# Altium schematic symbol library TCA9544APWR.SchLib: 2 symbols
Pins are listed as number, name and electrical type; pins without a type are passive.

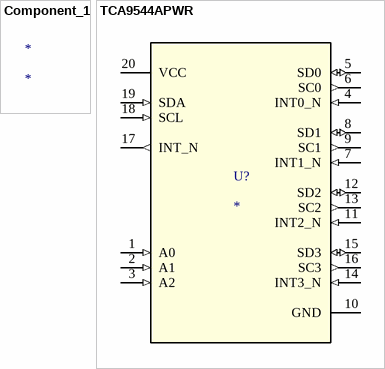
[diagram p0: symbols Component_1 to TCA9544APWR]

## Component_1
designator *

## TCA9544APWR
designator U?
No Description Available; Mfr_Name: Texas Instruments; PartNumber: TCA9544APWR; CompType: IC; TYPE: TYPE; RefDes: RefDes; SymbolVerison: 2015-05-04; PackageReference: PW0020A; MountType: SMT; RoHS: Y; Manufacturer: Texas Instruments
footprint PW0020A_L
pins: 1 A0 (in), 2 A1 (in), 3 A2 (in), 4 INT0_N (in), 5 SD0 (io), 6 SC0 (out), 7 INT1_N (in), 8 SD1 (io), 9 SC1 (out), 10 GND (power), 11 INT2_N (in), 12 SD2 (io), 13 SC2 (out), 14 INT3_N (in), 15 SD3 (io), 16 SC3 (out), 17 INT_N (out), 18 SCL (in), 19 SDA (in), 20 VCC (power)